# Altium footprint library PcbLib1.PcbLib: 38 footprints (part 3 of 3)
Each footprint in its own frame and in the unit in brackets; x right, y up, seen from the top. Pads: shape width x height; smd on the part's side, far side on the other; paste and mask are expansions set on the pad; w line width, h text height; cw(c..) or ccw(c..) is an arc to the next point about the centre after c.
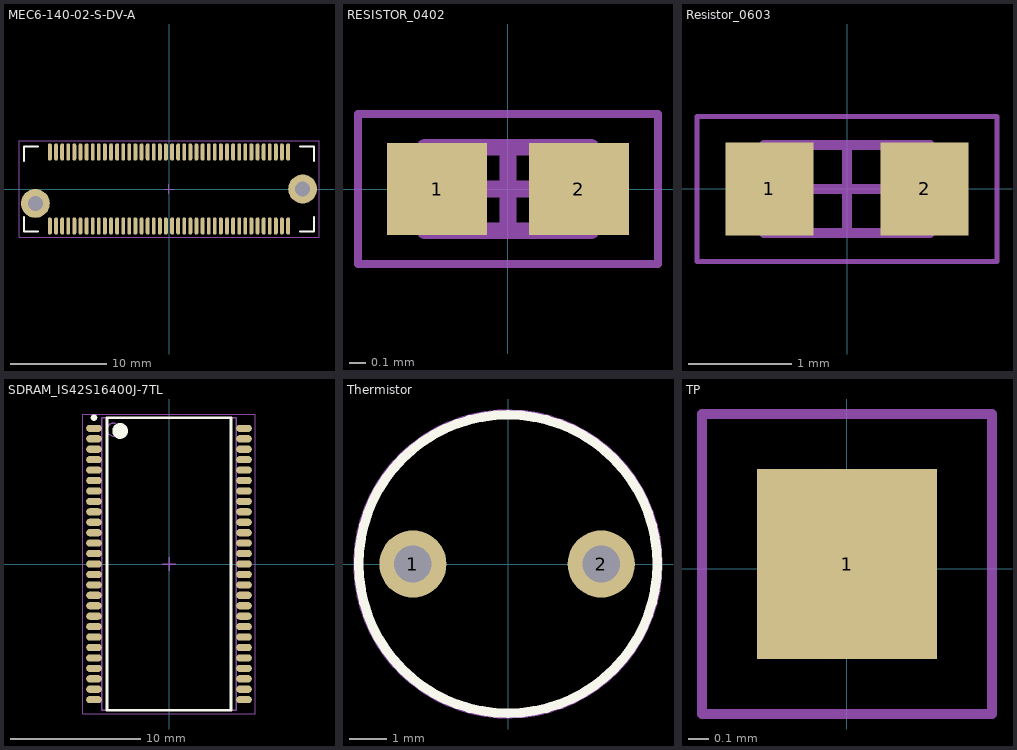
[diagram p2: the footprints below, top view; thin cyan lines are the x and y axes]

## MEC6-140-02-S-DV-A [mm] "CONN EDGE DUAL FMALE 80POS 0.025"
height 8.65
pads (82):
  oval 0.4x1.8 smd: 1(-12.383,-3.85) 2(-12.383,3.85) 3(-11.747,-3.85) 4(-11.747,3.85) 5(-11.112,-3.85) 6(-11.112,3.85) 7(-10.477,-3.85) 8(-10.477,3.85) 9(-9.842,-3.85) 10(-9.842,3.85) 11(-9.207,-3.85) 12(-9.207,3.85) 13(-8.572,-3.85) 14(-8.572,3.85) 15(-7.938,-3.85) 16(-7.938,3.85) 17(-7.302,-3.85) 18(-7.302,3.85) 19(-6.667,-3.85) 20(-6.667,3.85) 21(-6.032,-3.85) 22(-6.032,3.85) 23(-5.397,-3.85) 24(-5.397,3.85) 25(-4.763,-3.85) 26(-4.763,3.85) 27(-4.127,-3.85) 28(-4.127,3.85) 29(-3.492,-3.85) 30(-3.492,3.85) 31(-2.857,-3.85) 32(-2.857,3.85) 33(-2.222,-3.85) 34(-2.222,3.85) 35(-1.587,-3.85) 36(-1.587,3.85) 37(-0.953,-3.85) 38(-0.953,3.85) 39(-0.318,-3.85) 40(-0.318,3.85) 41(0.318,-3.85) 42(0.318,3.85) 43(0.953,-3.85) 44(0.953,3.85) 45(1.587,-3.85) 46(1.587,3.85) 47(2.222,-3.85) 48(2.222,3.85) 49(2.857,-3.85) 50(2.857,3.85) 51(3.492,-3.85) 52(3.492,3.85) 53(4.127,-3.85) 54(4.127,3.85) 55(4.763,-3.85) 56(4.763,3.85) 57(5.397,-3.85) 58(5.397,3.85) 59(6.032,-3.85) 60(6.032,3.85) 61(6.667,-3.85) 62(6.667,3.85) 63(7.302,-3.85) 64(7.302,3.85) 65(7.938,-3.85) 66(7.938,3.85) 67(8.572,-3.85) 68(8.572,3.85) 69(9.207,-3.85) 70(9.207,3.85) 71(9.842,-3.85) 72(9.842,3.85) 73(10.477,-3.85) 74(10.477,3.85) 75(11.112,-3.85) 76(11.112,3.85) 77(11.747,-3.85) 78(11.747,3.85) 79(12.383,-3.85) 80(12.383,3.85)
  round 3 hole 1.55: ""(-13.9,-1.5) ""(13.9,0)
Top Overlay:
  lines w0.2: -15.1,-2.9 -15.1,-4.4 -13.6,-4.4 ; -15.1,2.9 -15.1,4.4 -13.6,4.4 ; 13.6,-4.4 15.1,-4.4 15.1,-2.9 ; 13.6,4.4 15.1,4.4 15.1,2.9
Mechanical 15:
  lines w0.1: -0.5,0 0.5,0 ; 0,-0.5 0,0.5 ; -15.6,-5 15.6,-5 15.6,5 -15.6,5 -15.6,-5
3D body "MEC6-140-02-S-DV-A.stp": height 8.5, standoff -1, extent -15.085,-4.4 15.085,4.4

## RESISTOR_0402 [mm]
height 0.2
pads (2):
  rect 0.6x0.55 smd: 1(-0.425,0) 2(0.425,0)
Mechanical 13:
  lines w0.1: -0.5,-0.25 0.5,-0.25 0.5,0.25 -0.5,0.25 -0.5,-0.25
Mechanical 15:
  lines w0.05: -0.9,-0.45 0.9,-0.45 0.9,0.45 -0.9,0.45 -0.9,-0.45
  lines w0.1: -0.25,0 0.25,0 ; 0,-0.25 0,0.25
3D body: height 0.2, standoff 0, extent 0.15,-0.25 0.5,0.25
3D body: height 0.2, standoff 0, extent -0.5,-0.25 -0.15,0.25
3D body: height 0.2, standoff 0, extent -0.15,-0.25 0.15,0.25

## Resistor_0603 [mm]
height 0.3
pads (2):
  rect 0.85x0.9 smd: 1(-0.75,0) 2(0.75,0)
Mechanical 13:
  lines w0.1: -0.8,-0.425 0.8,-0.425 0.8,0.425 -0.8,0.425 -0.8,-0.425
Mechanical 15:
  lines w0.05: -1.45,-0.7 1.45,-0.7 1.45,0.7 -1.45,0.7 -1.45,-0.7
  lines w0.1: -0.425,0 0.425,0 ; 0,-0.425 0,0.425
3D body: height 0.3, standoff 0, extent 0.35,-0.425 0.8,0.425
3D body: height 0.3, standoff 0, extent -0.8,-0.425 -0.35,0.425
3D body: height 0.3, standoff 0, extent -0.35,-0.425 0.35,0.425

## SDRAM_IS42S16400J-7TL [mm] "TSOP, 54-Leads, Body 22,22x10,16mm, Pitch 0,80mm, IPC Medium Density"
height 1.2
pads (54):
  oval 1.2x0.55 smd: 1(-5.75,10.4) 2(-5.75,9.6) 3(-5.75,8.8) 4(-5.75,8) 5(-5.75,7.2) 6(-5.75,6.4) 7(-5.75,5.6) 8(-5.75,4.8) 9(-5.75,4) 10(-5.75,3.2) 11(-5.75,2.4) 12(-5.75,1.6) 13(-5.75,0.8) 14(-5.75,0) 15(-5.75,-0.8) 16(-5.75,-1.6) 17(-5.75,-2.4) 18(-5.75,-3.2) 19(-5.75,-4) 20(-5.75,-4.8) 21(-5.75,-5.6) 22(-5.75,-6.4) 23(-5.75,-7.2) 24(-5.75,-8) 25(-5.75,-8.8) 26(-5.75,-9.6) 27(-5.75,-10.4) 28(5.75,-10.4) 29(5.75,-9.6) 30(5.75,-8.8) 31(5.75,-8) 32(5.75,-7.2) 33(5.75,-6.4) 34(5.75,-5.6) 35(5.75,-4.8) 36(5.75,-4) 37(5.75,-3.2) 38(5.75,-2.4) 39(5.75,-1.6) 40(5.75,-0.8) 41(5.75,0) 42(5.75,0.8) 43(5.75,1.6) 44(5.75,2.4) 45(5.75,3.2) 46(5.75,4) 47(5.75,4.8) 48(5.75,5.6) 49(5.75,6.4) 50(5.75,7.2) 51(5.75,8) 52(5.75,8.8) 53(5.75,9.6) 54(5.75,10.4)
Top Overlay:
  circle w0.6: c-3.75,10.2 r0.3
  circle w0.25: c-5.75,11.225 r0.125
  lines w0.2: -4.75,-11.2 4.75,-11.2 4.75,11.2 -4.75,11.2 -4.75,-11.2
Mechanical 13:
  circle w0.1: c-4.25,10.3 r0.5
  lines w0.1: -5.15,-11.2 5.15,-11.2 5.15,11.2 -5.15,11.2 -5.15,-11.2
Mechanical 15:
  lines w0.05: -6.6,-11.5 6.6,-11.5 6.6,11.5 -6.6,11.5 -6.6,-11.5
  lines w0.1: -0.5,0 0.5,0 ; 0,-0.5 0,0.5
3D body: height 1.2, standoff 0.15, extent -5.15,-11.2 5.15,11.2

## Thermistor [mm] "Thermistor"
height 21
pads (2):
  round 1.8 hole 1: 1(-2.55,0) 2(2.5,0)
Top Overlay:
  circle w0.254: c0,0 r4
Mechanical 13:
  circle w0.254: c0,0 r4.022
3D body: height 21, standoff 0, extent -3.999,-3.999 3.999,3.999

## TP [mm] "Test_Point"
height 0.1
pads (1):
  rect 0.9x0.95 smd: 1(0,0.025)
Mechanical 15:
  lines w0.05: -0.725,-0.725 0.725,-0.725 0.725,0.775 -0.725,0.775 -0.725,-0.725